# EAGLE library part 1X8_HEADER (library ModernDevice)
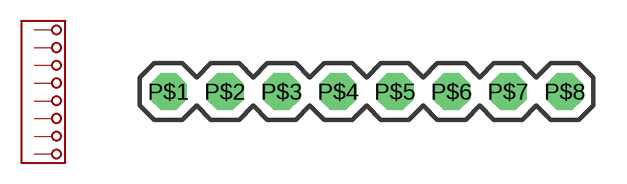
[diagram p0: symbol with the pads of 1X8_HEADER; footprint 1X8_HEADER]

Designator prefix -

## 1X8_HEADER  [1X8_HEADER]
P$1  P$1
P$2  P$2
P$3  P$3
P$4  P$4
P$5  P$5
P$6  P$6
P$7  P$7
P$8  P$8

## Footprint 1X8_HEADER (pad centres in mm)
drill 1.016 pad 1.676 octagon: P$1 -8.89,0; P$2 -6.35,0; P$3 -3.81,0; P$4 -1.27,0; P$5 1.27,0; P$6 3.81,0; P$7 6.35,0; P$8 8.89,0